# Altium footprint library GPS-V2.PcbLib: 16 footprints
Each footprint in its own frame and in the unit in brackets; x right, y up, seen from the top. Pads: shape width x height; smd on the part's side, far side on the other; paste and mask are expansions set on the pad; w line width, h text height; cw(c..) or ccw(c..) is an arc to the next point about the centre after c.
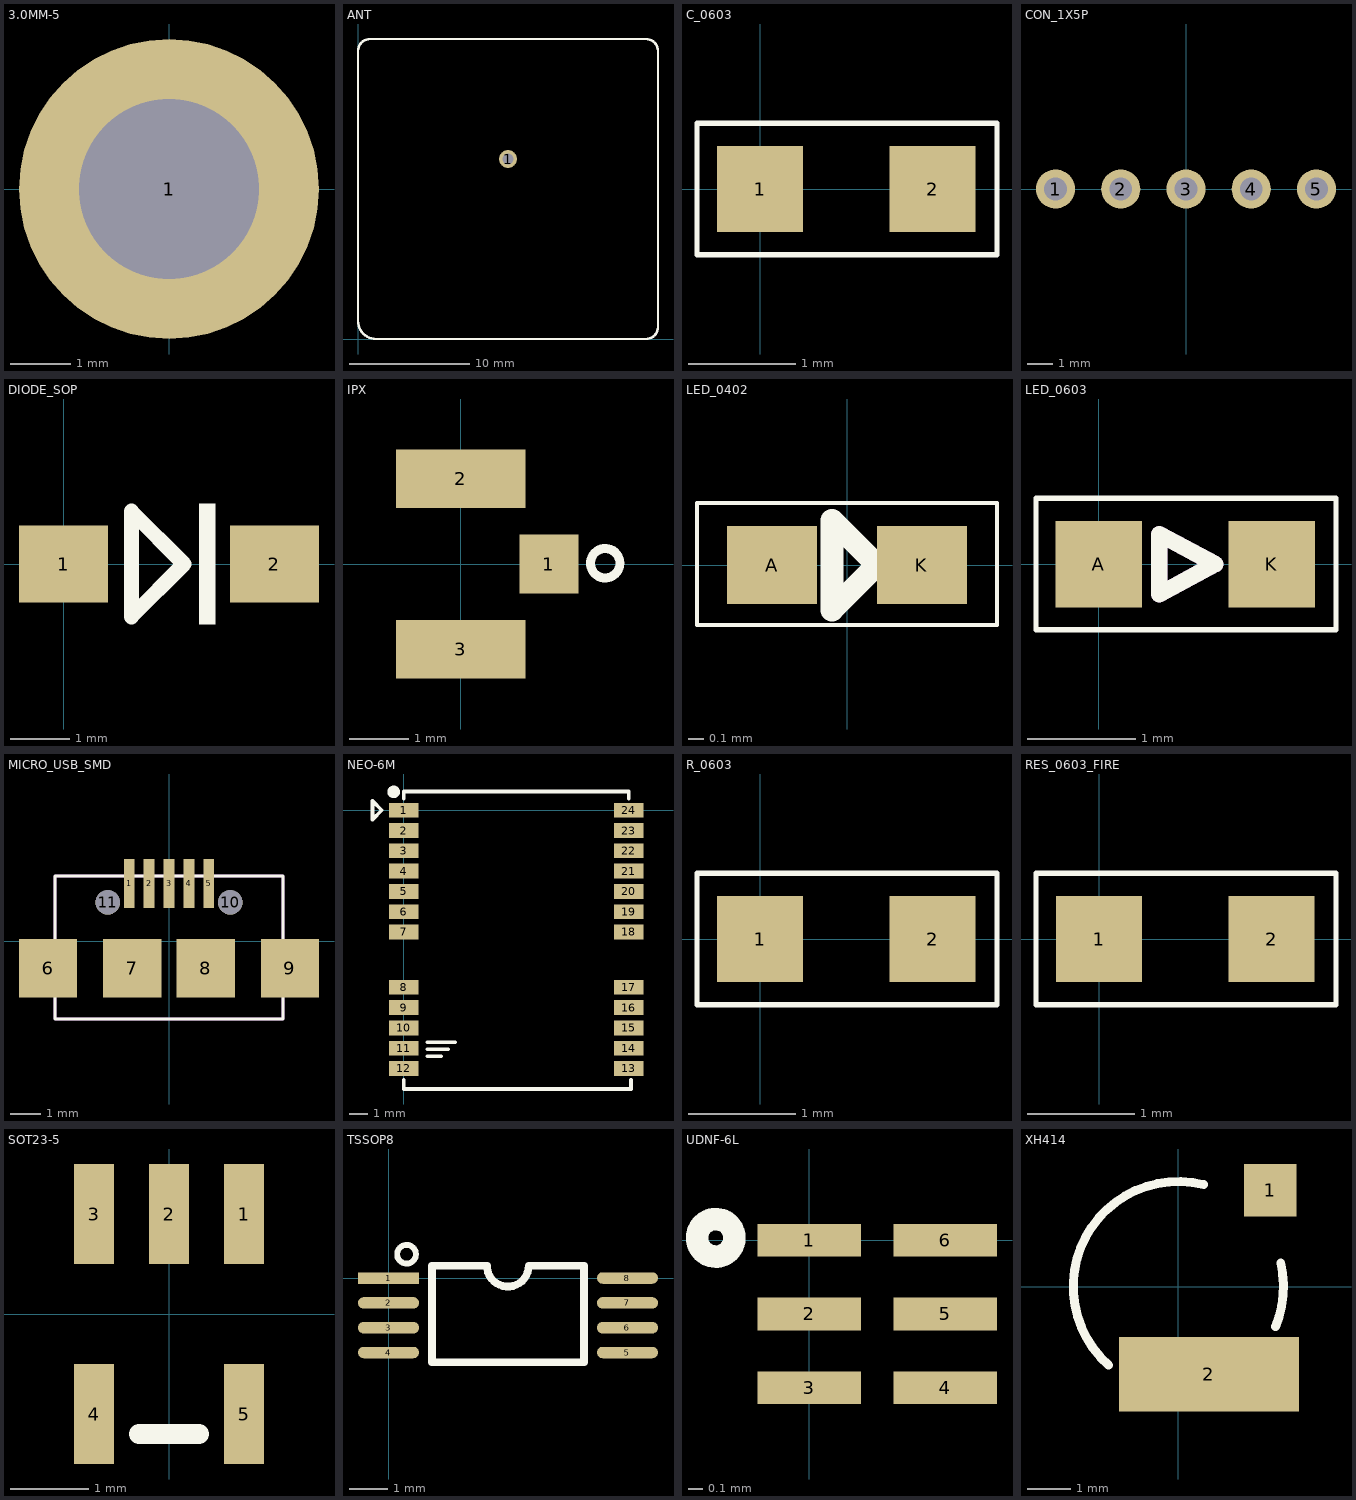
[diagram p0: the footprints below, top view; thin cyan lines are the x and y axes]

## 3.0MM-5 [mm]
pads (1):
  round 5 hole 3: 1(0,0)

## ANT [mm]
pads (1):
  round 1.5 hole 0.9: 1(12.5,15)
Top Overlay:
  lines w0.203: 0,1.5 ccw(c1.5,1.5) 1.5,0 24,0 ccw(c24,1) 25,1 25,24 ccw(c24,24) 24,25 0.9,25 1,25 ccw(c1,24) 0,24 0,1.5

## C_0603 [mm]
pads (2):
  rect 0.8x0.8 smd: 1(0,0) 2(1.6,0)
Top Overlay:
  lines w0.051: -0.584,-0.61 2.197,-0.61 2.197,0.61 -0.584,0.61 -0.584,-0.61

## CON_1X5P [mil]
pads (5):
  round 60 hole 35: 1(-200,0) 2(-100,0) 3(0,0) 4(100,0) 5(200,0)

## DIODE_SOP [mm]
pads (2):
  rect 1.5x1.3 smd: 1(0,0) 2(3.556,0)
Top Overlay:
  region: 2.286,-1.016 2.559,-1.016 2.559,1.016 2.286,1.016
  lines w0.254: 1.143,-0.889 2.032,0 1.143,0.889 1.143,-0.889

## IPX [mm]
pads (3):
  rrect0% 1x1 smd: 1(1.5,0)
  rect 2.2x1 smd: 2(0,1.45) 3(0,-1.45)
Top Overlay:
  circle w0.152: c2.456,0.013 r0.25

## LED_0402 [mm]
pads (2):
  rect 0.6x0.52 smd: A(-0.5,0) K(0.5,0)
Top Overlay:
  lines w0.025: -1,-0.4 1,-0.4 1,0.415 -1,0.415 -1,-0.4
  lines w0.15: -0.1,-0.3 0.2,0 -0.1,0.3 -0.1,-0.3

## LED_0603 [mm]
pads (2):
  rect 0.8x0.8 smd: A(0,0) K(1.6,0)
Top Overlay:
  lines w0.051: -0.579,-0.605 2.193,-0.605 2.193,0.607 -0.579,0.607 -0.579,-0.605
  lines w0.152: 0.562,-0.277 1.076,0.001 0.562,0.277 0.562,-0.277
Mechanical 1:
  lines w0.152: 0.562,-0.277 1.076,0.001 0.562,0.277 0.562,-0.277

## MICRO_USB_SMD [mm]
pads (11):
  rect 0.35x1.6 smd: 1(-1.3,1.89) 2(-0.65,1.89) 3(0,1.89) 4(0.65,1.89) 5(1.3,1.89)
  rrect0% 1.9x1.9 smd: 6(-3.95,-0.885) 7(-1.2,-0.885) 8(1.2,-0.885) 9(3.95,-0.885)
  round 0.8 hole 0.8: 10(2,1.265) 11(-2,1.265)
Top Overlay:
  lines w0.1: -3.73,-2.547 3.73,-2.547 3.73,2.125 -3.73,2.125 -3.73,-2.547
Mechanical 1:
  lines w0.1: -3.73,-2.547 3.73,-2.547 3.73,2.125 -3.73,2.125 -3.73,-2.547

## NEO-6M [mm]
pads (24):
  rect 1.6x0.8 smd: 1(0,0) 2(0,-1.1) 3(0,-2.2) 4(0,-3.3) 5(0,-4.4) 6(0,-5.5) 7(0,-6.6) 8(0,-9.6) 9(0,-10.7) 10(0,-11.8) 11(0,-12.9) 12(0,-14) 13(12.2,-14) 14(12.2,-12.9) 15(12.2,-11.8) 16(12.2,-10.7) 17(12.2,-9.6) 18(12.2,-6.6) 19(12.2,-5.5) 20(12.2,-4.4) 21(12.2,-3.3) 22(12.2,-2.2) 23(12.2,-1.1) 24(12.2,0)
Top Overlay:
  circle w0.381: c-0.552,1 r0.152
  lines w0.152: -1.7,-0.5 -1.2,0 -1.7,0.5 -1.7,-0.5
  lines w0.203: 0,-14.605 0,-15.113 12.319,-15.113 12.319,-14.605 ; 0,0.635 0,1.016 12.192,1.016 12.192,0.635 ; 1.27,-13.335 2.032,-13.335 ; 1.27,-12.954 2.413,-12.954 ; 1.27,-12.573 2.794,-12.573 ; -1.2,0 -1.7,-0.5 -1.7,0.5 -1.2,0 ; -1.2,0 -1.2,0

## R_0603 [mm]
pads (2):
  rect 0.8x0.8 smd: 1(0,0) 2(1.6,0)
Top Overlay:
  lines w0.051: -0.584,-0.61 2.197,-0.61 2.197,0.61 -0.584,0.61 -0.584,-0.61

## RES_0603_FIRE [mm]
pads (2):
  rect 0.8x0.8 smd: 1(0,0) 2(1.6,0)
Top Overlay:
  lines w0.051: -0.584,-0.61 2.197,-0.61 2.197,0.61 -0.584,0.61 -0.584,-0.61

## SOT23-5 [mil]
pads (5):
  rect 20x50 smd: 1(37.5,50) 2(0,50) 3(-37.5,50) 4(-37.5,-50) 5(37.5,-50)
Top Overlay:
  lines w10: -15,-60 15,-60

## TSSOP8 [mm]
pads (8):
  rect 1.6x0.3 smd: 1(0,0)
  oval 1.6x0.3 smd: 2(0,-0.65) 3(0,-1.3) 4(0,-1.95) 5(6.25,-1.95) 6(6.25,-1.3) 7(6.25,-0.65) 8(6.25,0)
Top Overlay:
  circle w0.152: c0.47,0.622 r0.246
  lines w0.2: 1.135,-2.2 5.115,-2.2 5.115,0.325 3.665,0.325 cw(c3.12,0.32) 2.575,0.325 1.135,0.325 1.135,-2.2

## UDNF-6L [mm]
pads (6):
  rect 0.7x0.22 smd: 1(0,0) 2(0,-0.5) 3(0,-1) 4(0.92,-1) 5(0.92,-0.5) 6(0.92,0)
Top Overlay:
  circle w0.152: c-0.634,0.015 r0.127

## XH414 [mm]
pads (2):
  rect 1.2x1.2 smd: 1(2.1,2.2)
  rect 4.1x1.7 smd: 2(0.7,-2)
Top Overlay:
  lines w0.203: -1.593,-1.795 cw(c0,0) 0.581,2.329 ; 2.222,-0.907 ccw(c0,0) 2.339,0.536